# Altium footprint library RC.PcbLib: 63 footprints (part 4 of 4)
Each footprint in its own frame and in the unit in brackets; x right, y up, seen from the top. Pads: shape width x height; smd on the part's side, far side on the other; paste and mask are expansions set on the pad; w line width, h text height; cw(c..) or ccw(c..) is an arc to the next point about the centre after c.
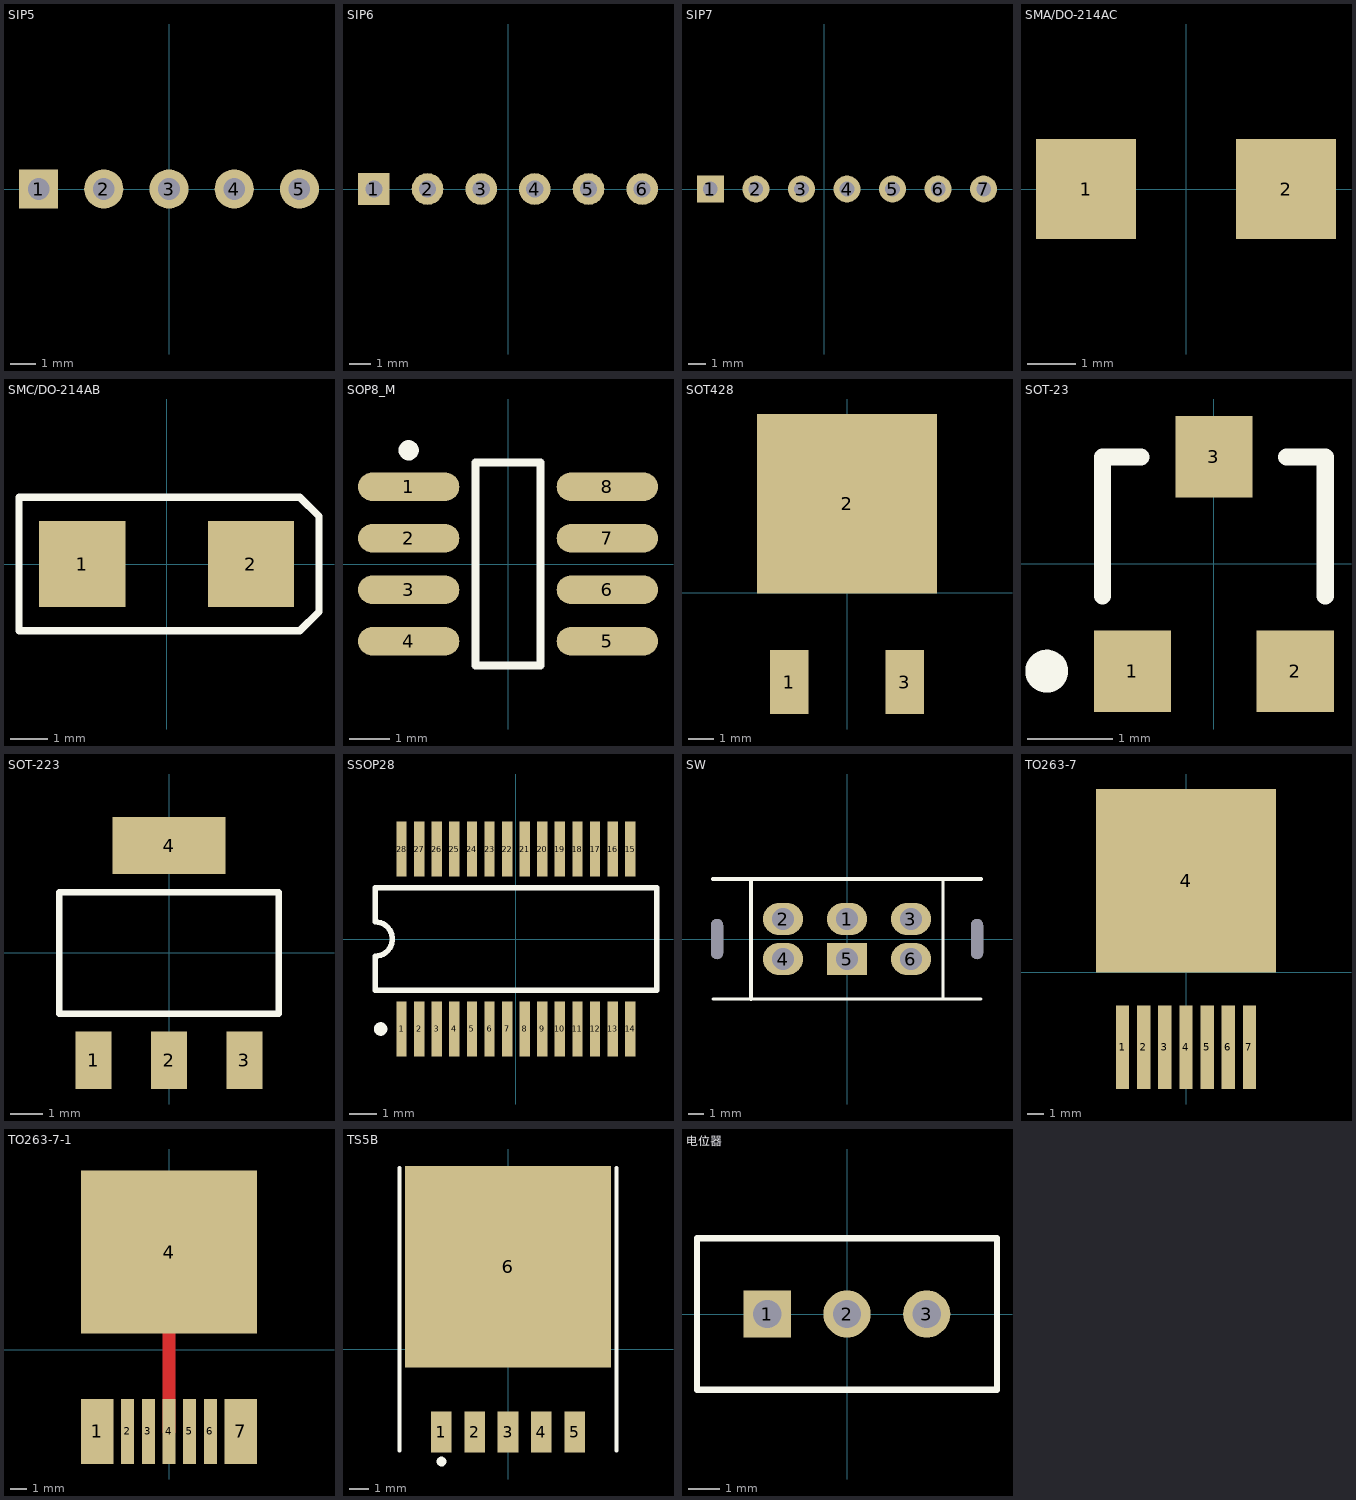
[diagram p3: the footprints below, top view; thin cyan lines are the x and y axes]

## SIP5 [mil]
pads (5):
  rect 60x60 hole 33: 1(-200,0)
  round 60 hole 33: 2(-100,0) 3(0,0) 4(100,0) 5(200,0)

## SIP6 [mm]
pads (6):
  rect 1.5x1.5 hole 0.813: 1(-6.35,0)
  round 1.5 hole 0.813: 2(-3.81,0) 3(-1.27,0) 4(1.27,0) 5(3.81,0) 6(6.35,0)

## SIP7 [mm]
pads (7):
  rect 1.5x1.5 hole 0.813: 1(-6.35,0)
  round 1.5 hole 0.813: 2(-3.81,0) 3(-1.27,0) 4(1.27,0) 5(3.81,0) 6(6.35,0) 7(8.89,0)

## SMA/DO-214AC [mil]
pads (2):
  rect 82x82 smd: 1(-82,0) 2(82,0)

## SMC/DO-214AB [mm]
pads (2):
  rect 2.3x2.3 smd: 1(-2.25,0) 2(2.25,0)
Top Overlay:
  lines w0.2: -3.937,-1.778 -3.937,1.778 3.556,1.778 4.064,1.27 4.064,-1.27 3.556,-1.778 -3.937,-1.778

## SOP8_M [mm] "SOIC, 8-Leads, Body 4.9x3.9mm, Pitch 1.27mm, IPC Low Density"
height 1.76
pads (8):
  oval 2.5x0.7 smd: 1(-2.45,1.905) 2(-2.45,0.635) 3(-2.45,-0.635) 4(-2.45,-1.905) 5(2.45,-1.905) 6(2.45,-0.635) 7(2.45,0.635) 8(2.45,1.905)
Top Overlay:
  circle w0.25: c-2.45,2.805 r0.125
  lines w0.2: -0.8,-2.5 -0.8,2.5 0.8,2.5 0.8,-2.5 -0.8,-2.5

## SOT428 [mil]
pads (3):
  rect 59x98 smd: 1(-89,-137) 3(89,-137)
  rect 276x276 smd: 2(0,137)

## SOT-23 [mm] "SOT-23; 3 Leads; Body 3.0 x 2.6 mm, inc. leads (LxW max)"
height 1.1
pads (3):
  rect 0.9x0.95 smd: 1(-0.95,-1.25) 2(0.95,-1.25) 3(0,1.25)
Top Overlay:
  circle w0.25: c-1.95,-1.25 r0.125
  lines w0.2: -1.3,-0.375 -1.3,1.25 -0.85,1.25 ; 0.85,1.25 1.3,1.25 1.3,-0.375

## SOT-223 [mm] "SOT-223/SC-73; 4 Leads; Body 6.7 x 7.3 mm, inc. leads (LxW max)"
height 1.7
pads (4):
  rect 1.1x1.75 smd: 1(-2.3,-3.275) 2(0,-3.275) 3(2.3,-3.275)
  rect 3.45x1.75 smd: 4(0,3.275)
Top Overlay:
  lines w0.2: -3.35,-1.85 3.35,-1.85 3.35,1.85 -3.35,1.85 -3.35,-1.85

## SSOP28 [mm]
pads (28):
  rect 0.381x2.05 smd: 1(-4.225,-3.325) 2(-3.575,-3.325) 3(-2.925,-3.325) 4(-2.275,-3.325) 5(-1.625,-3.325) 6(-0.975,-3.325) 7(-0.325,-3.325) 8(0.325,-3.325) 9(0.975,-3.325) 10(1.625,-3.325) 11(2.275,-3.325) 12(2.925,-3.325) 13(3.575,-3.325) 14(4.225,-3.325) 15(4.225,3.325) 16(3.575,3.325) 17(2.925,3.325) 18(2.275,3.325) 19(1.625,3.325) 20(0.975,3.325) 21(0.325,3.325) 22(-0.325,3.325) 23(-0.975,3.325) 24(-1.625,3.325) 25(-2.275,3.325) 26(-2.925,3.325) 27(-3.575,3.325) 28(-4.225,3.325)
Top Overlay:
  circle w0.25: c-5,-3.325 r0.125
  lines w0.2: -5.2,-1.9 5.2,-1.9 5.2,1.9 -5.2,1.9 -5.2,0.633 cw(c-5.2,0) -5.2,-0.633 -5.2,-1.9

## SW [mil]
pads (8):
  oval 100x80 hole 55: 1(0,50) 2(-160,50) 3(160,50) 4(-160,-50) 6(160,-50)
  rect 100x80 hole 55: 5(0,-50)
  oval 30x100 hole 30 slot 100 at 90 deg: ""(-325,0) ""(325,0)
Top Overlay:
  lines w8: -335,-150 335,-150 ; 240,-150 240,150
  lines w10: -335,150 335,150 ; -240,-150 -240,150

## TO263-7 [mm]
pads (8):
  rect 0.8x5 smd: 1(-3.81,-4.5) 2(-2.54,-4.5) 3(-1.27,-4.5) 4(0,-4.5) 5(1.27,-4.5) 6(2.54,-4.5) 7(3.81,-4.5)
  rect 10.8x11 smd: 4(0,5.5)

## TO263-7-1 [mm]
pads (8):
  rect 1.99x4 smd: 1(-4.405,-5) 7(4.405,-5)
  rect 0.8x4 smd: 2(-2.54,-5) 3(-1.27,-5) 4(0,-5) 5(1.27,-5) 6(2.54,-5)
  rect 10.8x10 smd: 4(0,6)
Top Layer:
  lines w0.8: 0,-5 0,5.5

## TS5B [mm]
pads (6):
  rect 1.05x2.1 smd: 1(-3.4,-4.225) 2(-1.7,-4.225) 3(0,-4.225) 4(1.7,-4.225) 5(3.4,-4.225)
  rect 10.5x10.3 smd: 6(0,4.225)
Top Overlay:
  circle w0.25: c-3.4,-5.725 r0.125
  lines w0.2: -5.55,-5.175 -5.55,9.275 ; 5.55,-5.175 5.55,9.275

## 电位器 [mm]
pads (3):
  rect 1.5x1.5 hole 0.9: 1(-2.54,0)
  round 1.5 hole 0.9: 2(0,0) 3(2.54,0)
Top Overlay:
  lines w0.2: -4.775,-2.413 -4.775,2.413 4.775,2.413 4.775,-2.413 -4.775,-2.413